# EAGLE library part RASPBERRY_PICO (library RpiPico)
Raspberry Pi Pico
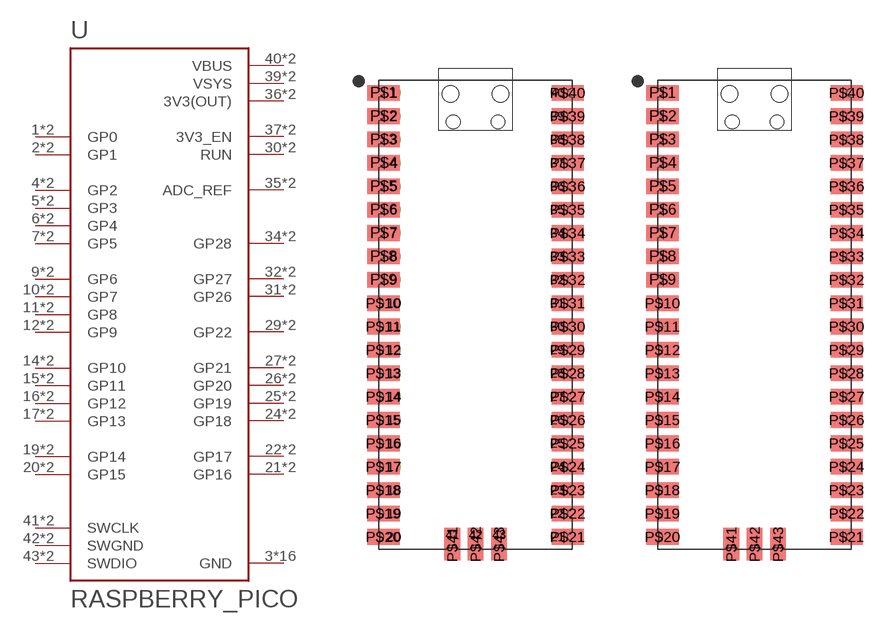
[diagram p0: symbol with the pads of PICO-PKG; footprints PICO-PKG, PICO-PKG-SMD]

Designator prefix U

## RASPBERRY_PICOSMD-TH  [PICO-PKG]
1  GP0
2  GP1
3  GND  pwr
4  GP2
5  GP3
6  GP4
7  GP5
8  GND  pwr
9  GP6
10  GP7
11  GP8
12  GP9
13  GND  pwr
14  GP10
15  GP11
16  GP12
17  GP13
18  GND  pwr
19  GP14
20  GP15
21  GP16
22  GP17
23  GND  pwr
24  GP18
25  GP19
26  GP20
27  GP21
28  GND  pwr
29  GP22
30  RUN  in
31  GP26
32  GP27
33  GND  pwr
34  GP28
35  ADC_REF  in
36  3V3(OUT)  pwr
37  3V3_EN  in
38  GND  pwr
39  VSYS  pwr
40  VBUS  pwr
41  SWCLK  in
42  SWGND  pwr
43  SWDIO
P$1  GP0
P$2  GP1
P$3  GND  pwr
P$4  GP2
P$5  GP3
P$6  GP4
P$7  GP5
P$8  GND  pwr
P$9  GP6
P$10  GP7
P$11  GP8
P$12  GP9
P$13  GND  pwr
P$14  GP10
P$15  GP11
P$16  GP12
P$17  GP13
P$18  GND  pwr
P$19  GP14
P$20  GP15
P$21  GP16
P$22  GP17
P$23  GND  pwr
P$24  GP18
P$25  GP19
P$26  GP20
P$27  GP21
P$28  GND  pwr
P$29  GP22
P$30  RUN  in
P$31  GP26
P$32  GP27
P$33  GND  pwr
P$34  GP28
P$35  ADC_REF  in
P$36  3V3(OUT)  pwr
P$37  3V3_EN  in
P$38  GND  pwr
P$39  VSYS  pwr
P$40  VBUS  pwr
P$41  SWCLK  in
P$42  SWGND  pwr
P$43  SWDIO

## RASPBERRY_PICOSMD  [PICO-PKG-SMD]
P$1  GP0
P$2  GP1
P$3  GND  pwr
P$4  GP2
P$5  GP3
P$6  GP4
P$7  GP5
P$8  GND  pwr
P$9  GP6
P$10  GP7
P$11  GP8
P$12  GP9
P$13  GND  pwr
P$14  GP10
P$15  GP11
P$16  GP12
P$17  GP13
P$18  GND  pwr
P$19  GP14
P$20  GP15
P$21  GP16
P$22  GP17
P$23  GND  pwr
P$24  GP18
P$25  GP19
P$26  GP20
P$27  GP21
P$28  GND  pwr
P$29  GP22
P$30  RUN  in
P$31  GP26
P$32  GP27
P$33  GND  pwr
P$34  GP28
P$35  ADC_REF  in
P$36  3V3(OUT)  pwr
P$37  3V3_EN  in
P$38  GND  pwr
P$39  VSYS  pwr
P$40  VBUS  pwr
P$41  SWCLK  in
P$42  SWGND  pwr
P$43  SWDIO

## RASPBERRY_PICOTH  [PICO-PKG-TH]
1  GP0
2  GP1
3  GND  pwr
4  GP2
5  GP3
6  GP4
7  GP5
8  GND  pwr
9  GP6
10  GP7
11  GP8
12  GP9
13  GND  pwr
14  GP10
15  GP11
16  GP12
17  GP13
18  GND  pwr
19  GP14
20  GP15
21  GP16
22  GP17
23  GND  pwr
24  GP18
25  GP19
26  GP20
27  GP21
28  GND  pwr
29  GP22
30  RUN  in
31  GP26
32  GP27
33  GND  pwr
34  GP28
35  ADC_REF  in
36  3V3(OUT)  pwr
37  3V3_EN  in
38  GND  pwr
39  VSYS  pwr
40  VBUS  pwr
41  SWCLK  in
42  SWGND  pwr
43  SWDIO

## Footprint PICO-PKG (pad centres in mm)
drill 1: 1 -8.89,24.13; 2 -8.89,21.59; 3 -8.89,19.05; 4 -8.89,16.51; 5 -8.89,13.97; 6 -8.89,11.43; 7 -8.89,8.89; 8 -8.89,6.35; 9 -8.89,3.81; 10 -8.89,1.27; 11 -8.89,-1.27; 12 -8.89,-3.81; 13 -8.89,-6.35; 14 -8.89,-8.89; 15 -8.89,-11.43; 16 -8.89,-13.97; 17 -8.89,-16.51; 18 -8.89,-19.05; 19 -8.89,-21.59; 20 -8.89,-24.13; 21 8.89,-24.13; 22 8.89,-21.59; 23 8.89,-19.05; 24 8.89,-16.51; 25 8.89,-13.97; 26 8.89,-11.43; 27 8.89,-8.89; 28 8.89,-6.35; 29 8.89,-3.81; 30 8.89,-1.27; 31 8.89,1.27; 32 8.89,3.81; 33 8.89,6.35; 34 8.89,8.89; 35 8.89,11.43; 36 8.89,13.97; 37 8.89,16.51; 38 8.89,19.05; 39 8.89,21.59; 40 8.89,24.13; 41 -2.54,-23.9; 42 0,-23.9; 43 2.54,-23.9
smd 3.5 x 1.7: P$1 -10,24.13; P$2 -10,21.59; P$3 -10,19.05; P$4 -10,16.51; P$5 -10,13.97; P$6 -10,11.43; P$7 -10,8.89; P$8 -10,6.35; P$9 -10,3.81; P$10 -10,1.27; P$11 -10,-1.27; P$12 -10,-3.81; P$13 -10,-6.35; P$14 -10,-8.89; P$15 -10,-11.43; P$16 -10,-13.97; P$17 -10,-16.51; P$18 -10,-19.05; P$19 -10,-21.59; P$20 -10,-24.13; P$21 10,-24.13; P$22 10,-21.59; P$23 10,-19.05; P$24 10,-16.51; P$25 10,-13.97; P$26 10,-11.43; P$27 10,-8.89; P$28 10,-6.35; P$29 10,-3.81; P$30 10,-1.27; P$31 10,1.27; P$32 10,3.81; P$33 10,6.35; P$34 10,8.89; P$35 10,11.43; P$36 10,13.97; P$37 10,16.51; P$38 10,19.05; P$39 10,21.59; P$40 10,24.13
smd 1.7 x 3.5: P$41 -2.54,-24.925; P$42 0,-24.925; P$43 2.54,-24.925
hole 1.8 at -2.725,24
hole 1.8 at 2.725,24
hole 1.5 at -2.425,20.97
hole 1.5 at 2.425,20.97

## Footprint PICO-PKG-SMD (pad centres in mm)
smd 3.5 x 1.7: P$1 -10,24.13; P$2 -10,21.59; P$3 -10,19.05; P$4 -10,16.51; P$5 -10,13.97; P$6 -10,11.43; P$7 -10,8.89; P$8 -10,6.35; P$9 -10,3.81; P$10 -10,1.27; P$11 -10,-1.27; P$12 -10,-3.81; P$13 -10,-6.35; P$14 -10,-8.89; P$15 -10,-11.43; P$16 -10,-13.97; P$17 -10,-16.51; P$18 -10,-19.05; P$19 -10,-21.59; P$20 -10,-24.13; P$21 10,-24.13; P$22 10,-21.59; P$23 10,-19.05; P$24 10,-16.51; P$25 10,-13.97; P$26 10,-11.43; P$27 10,-8.89; P$28 10,-6.35; P$29 10,-3.81; P$30 10,-1.27; P$31 10,1.27; P$32 10,3.81; P$33 10,6.35; P$34 10,8.89; P$35 10,11.43; P$36 10,13.97; P$37 10,16.51; P$38 10,19.05; P$39 10,21.59; P$40 10,24.13
smd 1.7 x 3.5: P$41 -2.54,-24.925; P$42 0,-24.925; P$43 2.54,-24.925
hole 1.8 at -2.725,24
hole 1.8 at 2.725,24
hole 1.5 at -2.425,20.97
hole 1.5 at 2.425,20.97

## Footprint PICO-PKG-TH (pad centres in mm)
drill 1: 1 -8.89,24.13; 2 -8.89,21.59; 3 -8.89,19.05; 4 -8.89,16.51; 5 -8.89,13.97; 6 -8.89,11.43; 7 -8.89,8.89; 8 -8.89,6.35; 9 -8.89,3.81; 10 -8.89,1.27; 11 -8.89,-1.27; 12 -8.89,-3.81; 13 -8.89,-6.35; 14 -8.89,-8.89; 15 -8.89,-11.43; 16 -8.89,-13.97; 17 -8.89,-16.51; 18 -8.89,-19.05; 19 -8.89,-21.59; 20 -8.89,-24.13; 21 8.89,-24.13; 22 8.89,-21.59; 23 8.89,-19.05; 24 8.89,-16.51; 25 8.89,-13.97; 26 8.89,-11.43; 27 8.89,-8.89; 28 8.89,-6.35; 29 8.89,-3.81; 30 8.89,-1.27; 31 8.89,1.27; 32 8.89,3.81; 33 8.89,6.35; 34 8.89,8.89; 35 8.89,11.43; 36 8.89,13.97; 37 8.89,16.51; 38 8.89,19.05; 39 8.89,21.59; 40 8.89,24.13; 41 -2.54,-23.9; 42 0,-23.9; 43 2.54,-23.9